# Altium footprint library PCB - LEADLESS - QFN - TI VQFN-24 RGE.PCBLIB: 1 footprints
Each footprint in its own frame and in the unit in brackets; x right, y up, seen from the top. Pads: shape width x height; smd on the part's side, far side on the other; paste and mask are expansions set on the pad; w line width, h text height; cw(c..) or ccw(c..) is an arc to the next point about the centre after c.
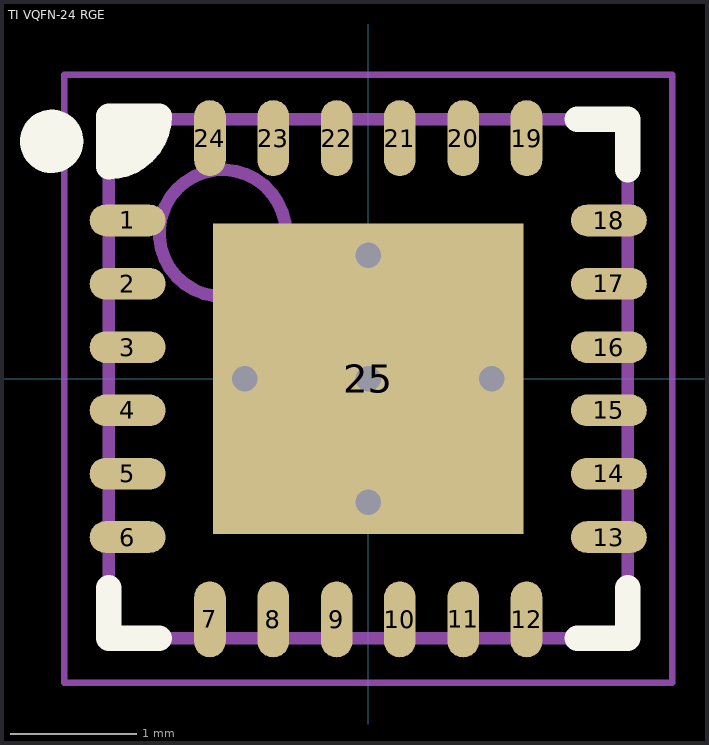
[diagram p0: the footprint, top view; thin cyan lines are the x and y axes]

## TI VQFN-24 RGE [mm] "QFN, 24-Leads, Body 4.00x4.00mm, Pitch 0.50mm, Thermal Pad 2.45x2.45mm, IPC Medium Density"
height 1
pads (25):
  oval 0.6x0.25 smd mask+0.07: 1(-1.9,1.25) 2(-1.9,0.75) 3(-1.9,0.25) 4(-1.9,-0.25) 5(-1.9,-0.75) 6(-1.9,-1.25) 13(1.9,-1.25) 14(1.9,-0.75) 15(1.9,-0.25) 16(1.9,0.25) 17(1.9,0.75) 18(1.9,1.25)
  oval 0.25x0.6 smd mask+0.07: 7(-1.25,-1.9) 8(-0.75,-1.9) 9(-0.25,-1.9) 10(0.25,-1.9) 11(0.75,-1.9) 12(1.25,-1.9) 19(1.25,1.9) 20(0.75,1.9) 21(0.25,1.9) 22(-0.25,1.9) 23(-0.75,1.9) 24(-1.25,1.9)
  rect 2.45x2.45 smd paste-5 mask+0.07: 25(0,0)
via 0.975,0 diameter 0.45 hole 0.2
via 0,-0.975 diameter 0.45 hole 0.2
via -0.975,0 diameter 0.45 hole 0.2
via 0,0.975 diameter 0.45 hole 0.2
via 0,0 diameter 0.45 hole 0.2
Top Overlay:
  circle w0.25: c-2.5,1.875 r0.125
  region: -2.05,2.075 -1.575,2.075 -1.575,1.95 -1.9,1.625 -2.05,1.625
  lines w0.2: -2.05,-1.65 -2.05,-2.05 -1.65,-2.05 ; 1.65,-2.05 2.05,-2.05 2.05,-1.65 ; 1.65,2.05 2.05,2.05 2.05,1.65 ; -2.05,1.675 ccw(c-2.05,2.075) -1.65,2.075 -2.05,2.075 -2.05,1.675
Top Paste:
  region: 0.1,-0.1 0.1,-1.18 1.18,-1.18 1.18,-0.1
  region: -0.1,-0.1 -1.18,-0.1 -1.18,-1.18 -0.1,-1.18
  region: -0.1,0.1 -0.1,1.18 -1.18,1.18 -1.18,0.1
  rectangle: 0.1,0.1 1.18,1.18
Mechanical 13:
  circle w0.1: c-1.15,1.15 r0.5
  lines w0.1: -2.05,-2.05 2.05,-2.05 2.05,2.05 -2.05,2.05 -2.05,-2.05
Mechanical 15:
  lines w0.05: -2.4,-2.4 2.4,-2.4 2.4,2.4 -2.4,2.4 -2.4,-2.4
  lines w0.1: -0.5,0 0.5,0 ; 0,-0.5 0,0.5
3D body "QFN50P400X400X100_HS-25N.step": height 1, standoff 0, extent -2.1,-2.1 2.1,2.1